# Altium footprint library MODULE.PCBLIB: 102 footprints (part 2 of 7)
Each footprint in its own frame and in the unit in brackets; x right, y up, seen from the top. Pads: shape width x height; smd on the part's side, far side on the other; paste and mask are expansions set on the pad; w line width, h text height; cw(c..) or ccw(c..) is an arc to the next point about the centre after c.
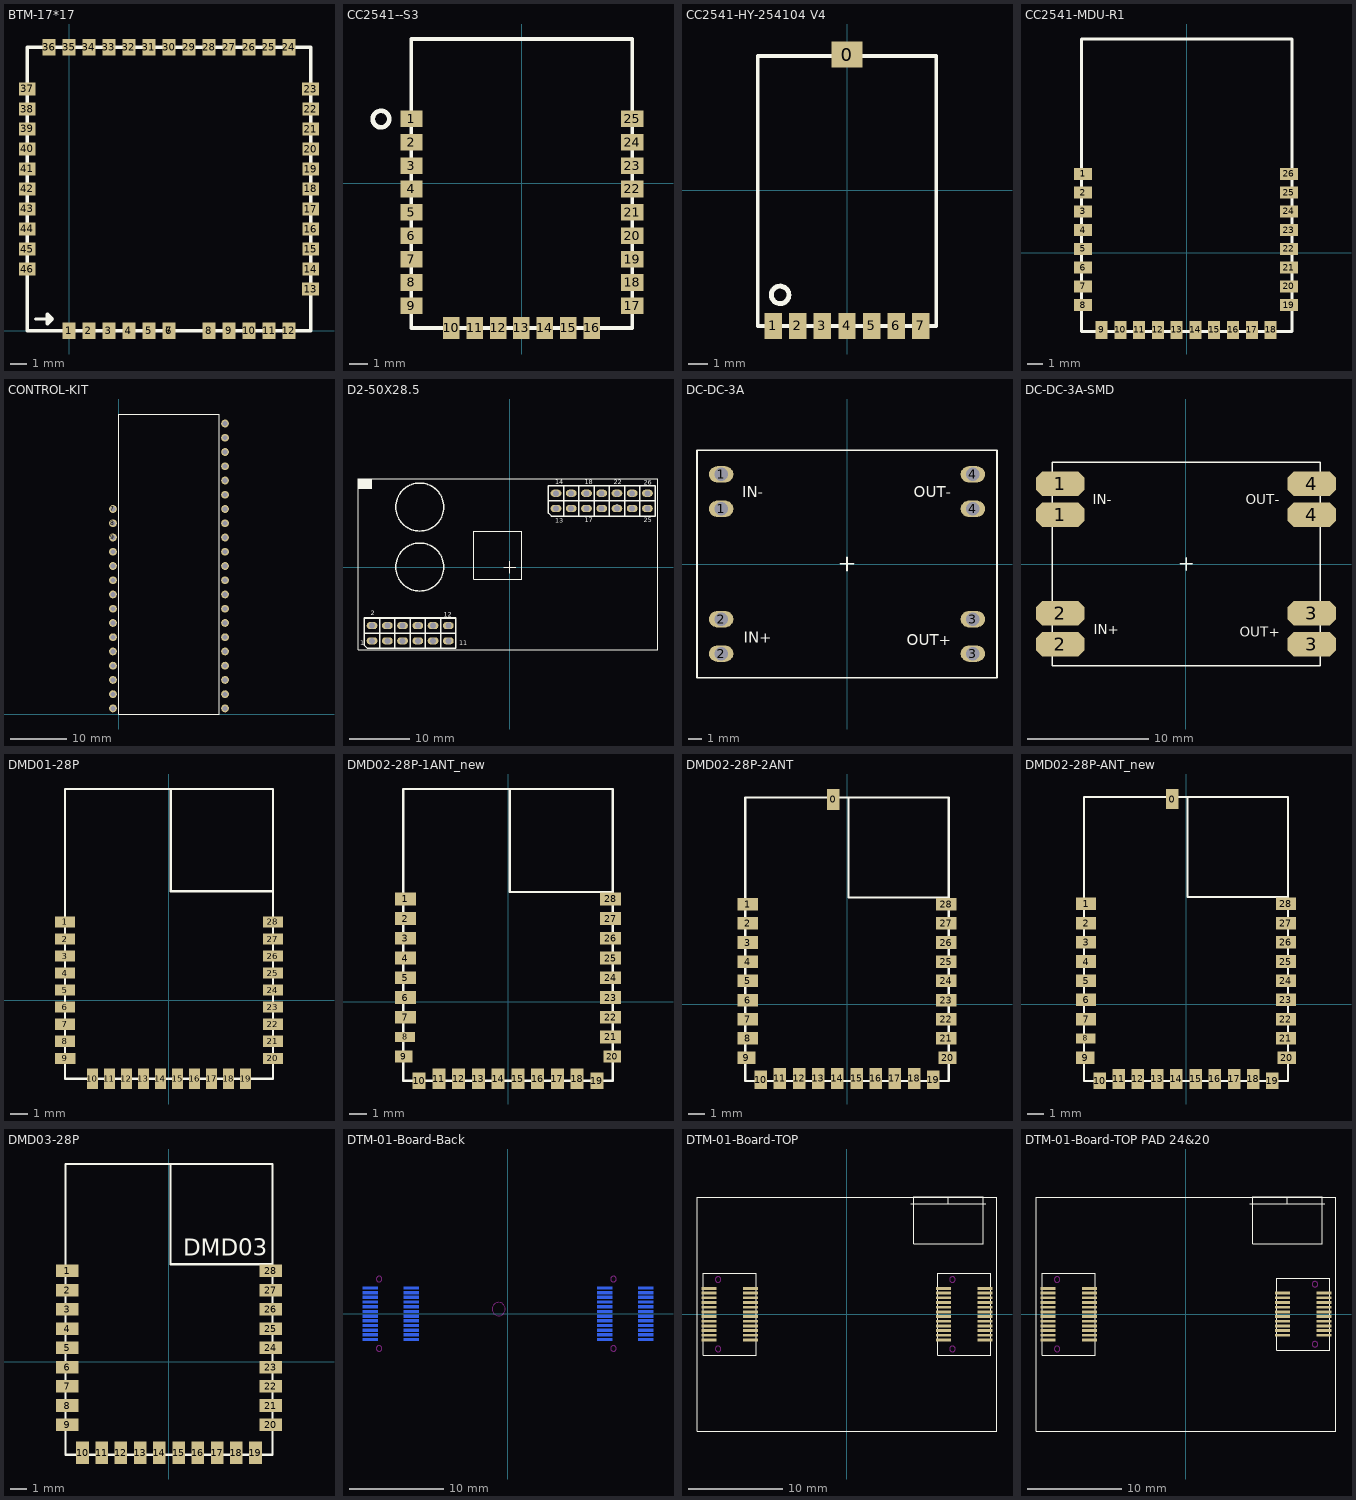
[diagram p1: the footprints below, top view; thin cyan lines are the x and y axes]

## BTM-17*17 [mm]
pads (46):
  rect 0.8x1 smd mask+0.102: 1(0,0) 2(1.2,0) 3(2.4,0) 4(3.6,0) 5(4.8,0) 6(6,0) 7(6,0) 8(8.4,0) 9(9.6,0) 10(10.8,0) 11(12,0) 12(13.2,0) 24(13.2,17) 25(12,17) 26(10.8,17) 27(9.6,17) 28(8.4,17) 29(7.2,17) 30(6,17) 31(4.8,17) 32(3.6,17) 33(2.4,17) 34(1.2,17) 35(0,17) 36(-1.2,17)
  rect 1x0.8 smd mask+0.102: 13(14.493,2.5) 14(14.5,3.7) 15(14.5,4.9) 16(14.5,6.1) 17(14.5,7.3) 18(14.5,8.5) 19(14.5,9.7) 20(14.5,10.9) 21(14.5,12.1) 22(14.5,13.3) 23(14.493,14.5) 37(-2.5,14.5) 38(-2.5,13.3) 39(-2.5,12.1) 40(-2.5,10.9) 41(-2.5,9.7) 42(-2.5,8.5) 43(-2.5,7.3) 44(-2.5,6.1) 45(-2.5,4.9) 46(-2.5,3.7)
TopOverlay:
  lines w0.2: -2,0.7 -1,0.7 ; -1,0.7 -1.3,0.4 -1.3,1 -1,0.7 ; -2.5,0 -2.5,17 14.5,17 14.5,0 -2.5,0

## CC2541--S3 [mm] "CC2541--S3"
pads (25):
  rect 1.2x0.9 smd mask+0.102: 1(-6,3.51) 2(-6,2.24) 3(-6,0.97) 4(-6,-0.3) 5(-6,-1.57) 6(-6,-2.84) 7(-6,-4.11) 8(-6,-5.38) 9(-6,-6.65) 17(6,-6.65) 18(6,-5.38) 19(6,-4.11) 20(6,-2.84) 21(6,-1.57) 22(6,-0.3) 23(6,0.97) 24(6,2.24) 25(6,3.51)
  rect 0.9x1.2 smd mask+0.102: 10(-3.83,-7.85) 11(-2.56,-7.85) 12(-1.29,-7.85) 13(-0.02,-7.85) 14(1.25,-7.85) 15(2.52,-7.85) 16(3.79,-7.85)
TopOverlay:
  circle w0.254: c-7.65,3.5 r0.45
  lines w0.2: -6,-7.85 6,-7.85 6,7.85 -6,7.85 -6,-7.85

## CC2541-HY-254104 V4 [mm] "CC2541-HY-254104 V4"
pads (8):
  rect 1.6x1.35 smd mask+0.102: 0(0,7)
  rect 0.9x1.35 smd mask+0.102: 1(-3.81,-7) 2(-2.54,-7) 3(-1.27,-7) 4(0,-7) 5(1.27,-7) 6(2.54,-7) 7(3.81,-7)
TopOverlay:
  circle w0.254: c-3.45,-5.4 r0.45
  lines w0.2: -4.602,-7 -4.602,6.93 4.602,6.93 4.602,-7 -4.602,-7

## CC2541-MDU-R1 [mm] "CC2541-MDU-R1"
pads (26):
  rect 1.2x0.8 smd mask+0.102: 1(-6.9,5.25) 2(-6.9,4) 3(-6.9,2.75) 4(-6.9,1.5) 5(-6.9,0.25) 6(-6.9,-1) 7(-6.9,-2.25) 8(-6.9,-3.5) 19(6.8,-3.5) 20(6.8,-2.25) 21(6.8,-1) 22(6.8,0.25) 23(6.8,1.5) 24(6.8,2.75) 25(6.8,4) 26(6.8,5.25)
  rect 0.8x1.2 smd mask+0.102: 9(-5.67,-5.15) 10(-4.42,-5.15) 11(-3.17,-5.15) 12(-1.92,-5.15) 13(-0.68,-5.15) 14(0.58,-5.15) 15(1.82,-5.15) 16(3.08,-5.15) 17(4.33,-5.15) 18(5.58,-5.15)
TopOverlay:
  lines w0.2: -7,-5.25 -7,14.225 7,14.225 7,-5.25 -7,-5.25

## CONTROL-KIT [mm] "CONTROL-KIT"
pads (36):
  round 1.4 hole 0.85 mask+0.102: 7(-1,36.56) 8(-1,34.02) 9(-1,31.48) 10(-1,28.94) 11(-1,26.4) 12(-1,23.86) 13(-1,21.32) 14(-1,18.78) 15(-1,16.24) 16(-1,13.7) 17(-1,11.16) 18(-1,8.62) 19(-1,6.08) 20(-1,3.54) 21(-1,1) 22(19,1) 23(19,3.54) 24(19,6.08) 25(19,8.62) 26(19,11.16) 27(19,13.7) 28(19,16.24) 29(19,18.78) 30(19,21.32) 31(19,23.86) 32(19,26.4) 33(19,28.94) 34(19,31.48) 35(19,34.02) 36(19,36.56) 37(19,39.1) 38(19,41.64) 39(19,44.18) 40(19,46.72) 41(19,49.26) 42(19,51.8)
TopOverlay:
  lines w0.127: 0,0 0,53.5 18,53.5 18,0 0,0

## D2-50X28.5 [mm]
pads (26):
  oval 1.8x1.2 hole 1 mask+0.102: 1(-22.945,-12.3) 2(-22.945,-9.76) 3(-20.405,-12.3) 4(-20.405,-9.76) 5(-17.865,-12.3) 6(-17.865,-9.76) 7(-15.325,-12.3) 8(-15.325,-9.76) 9(-12.785,-12.3) 10(-12.785,-9.76) 11(-10.245,-12.3) 12(-10.245,-9.76) 13(7.705,9.76) 14(7.705,12.3) 15(10.245,9.76) 16(10.245,12.3) 17(12.785,9.76) 18(12.785,12.3) 19(15.325,9.76) 20(15.325,12.3) 21(17.865,9.76) 22(17.865,12.3) 23(20.405,9.76) 24(20.405,12.3) 25(22.945,9.76) 26(22.945,12.3)
TopOverlay:
  circle w0.254: c-15,10 r4
  circle w0.254: c-15,0 r4
  rectangle: -25.295,13.001 -23.001,14.76
  lines w0.127: -1,0 1,0 ; 0,-1 0,1 ; -6,-2 -6,6 2,6 2,-2 -6,-2
  lines w0.2: -25.295,-13.74 24.705,-13.74 24.705,14.76 -25.295,14.76 -25.295,-13.74
  lines w0.254: -24.215,-11.03 -8.975,-11.03 ; -21.675,-13.57 -21.675,-8.49 ; -19.135,-13.57 -19.135,-8.49 ; -16.595,-13.57 -16.595,-8.49 ; -14.055,-13.57 -14.055,-8.49 ; -11.515,-13.57 -11.515,-8.49 ; 6.435,11.03 24.215,11.03 ; 8.975,8.49 8.975,13.57 ; 11.515,8.49 11.515,13.57 ; 14.055,8.49 14.055,13.57 ; 16.595,8.49 16.595,13.57 ; 19.135,8.49 19.135,13.57 ; 21.675,8.49 21.675,13.57 ; -24.215,-13.062 -23.707,-13.57 -8.975,-13.57 -8.975,-8.49 -24.215,-8.49 -24.215,-13.062 ; 6.435,8.998 6.943,8.49 24.215,8.49 24.215,13.57 6.435,13.57 6.435,8.998
  text "13" at 7.578,7.347 h0.8
  text "17" at 12.505,7.46 h0.8
  text "14" at 7.551,13.824 h0.8
  text "22" at 17.365,13.78 h0.8
  text "26" at 22.345,13.74 h0.8
  text "25" at 22.305,7.46 h0.8
  text "12" at -10.965,-8.24 h0.8
  text "1" at -24.945,-13.01 h0.8
  text "2" at -23.195,-8.01 h0.8
  text "11" at -8.444,-13.01 h0.8
  text "18" at 12.535,13.81 h0.8
  text "9" at 17.605,9.71 h0.8
BottomOverlay:
  lines w0.254: -24.215,-11.03 -8.975,-11.03 ; -21.675,-13.57 -21.675,-8.49 ; -19.135,-13.57 -19.135,-8.49 ; -16.595,-13.57 -16.595,-8.49 ; -14.055,-13.57 -14.055,-8.49 ; -11.515,-13.57 -11.515,-8.49 ; 6.435,11.03 24.215,11.03 ; 8.975,8.49 8.975,13.57 ; 11.515,8.49 11.515,13.57 ; 14.055,8.49 14.055,13.57 ; 16.595,8.49 16.595,13.57 ; 19.135,8.49 19.135,13.57 ; 21.675,8.49 21.675,13.57 ; -24.215,-13.062 -24.215,-8.49 -8.975,-8.49 -8.975,-13.57 -23.707,-13.57 -24.215,-13.062 ; 6.435,8.998 6.435,13.57 24.215,13.57 24.215,8.49 6.943,8.49 6.435,8.998
  text "14" at 23.455,13.77 h0.8
  text "12" at 21.005,13.76 h0.8
  text "8" at 15.595,13.81 h0.8
  text "6" at 13.045,13.78 h0.8
  text "4" at 10.645,13.78 h0.8
  text "2" at 8.115,13.79 h0.8
  text "10" at 18.545,13.77 h0.8
  text "3" at 10.495,7.35 h0.8
  text "7" at 15.615,7.29 h0.8
  text "9" at 18.105,7.4 h0.8
  text "11" at 20.805,7.42 h0.8
  text "13" at 23.575,7.37 h0.8
  text "1" at 7.832,7.16 h0.8
  text "5" at 13.085,7.37 h0.8
  text "12" at -9.645,-8.1 h0.8
  text "8" at -15.045,-8.1 h0.8
  text "6" at -17.645,-8.1 h0.8
  text "2" at -22.645,-8.1 h0.8
  text "10" at -12.175,-8.1 h0.8
  text "11" at -7.915,-13.29 h0.8
  text "1" at -24.515,-13.04 h0.8

## DC-DC-3A [mm]
pads (8):
  oval 1.8x1.2 hole 1 mask+0.102: 1(-9.271,4.064) 1(-9.271,6.604) 2(-9.271,-6.604) 2(-9.271,-4.064) 3(9.271,-6.604) 3(9.271,-4.064) 4(9.271,4.064) 4(9.271,6.604)
TopOverlay:
  lines w0.127: -0.5,0.018 0.5,0.018 ; 0,-0.5 0,0.5 ; -11.049,-8.382 -11.049,8.382 11.049,8.382 11.049,-8.382 -11.049,-8.382
  text "IN-" at -7.7,4.9 h0.8
  text "IN+" at -7.6,-5.8 h0.8
  text "OUT+" at 4.4,-6 h0.8
  text "OUT-" at 4.9,4.9 h0.8

## DC-DC-3A-SMD [mm]
pads (8):
  oct 4x2 smd mask+0.102: 1(-10.35,4.064) 1(-10.35,6.604) 2(-10.35,-6.604) 2(-10.35,-4.064) 3(10.35,-6.604) 3(10.35,-4.064) 4(10.35,4.064) 4(10.35,6.604)
TopOverlay:
  lines w0.127: -0.479,0.018 0.521,0.018 ; 0.021,-0.5 0.021,0.5 ; -11.028,-8.382 11.07,-8.382 11.07,8.382 -11.028,8.382 -11.028,-8.382
  text "OUT-" at 4.921,4.9 h0.8
  text "OUT+" at 4.421,-6 h0.8
  text "IN+" at -7.579,-5.8 h0.8
  text "IN-" at -7.679,4.9 h0.8

## DMD01-28P [mm] "DMD01-28P"
pads (28):
  rect 1.2x0.65 smd: 1(-6.1,4.6) 2(-6.1,3.6) 3(-6.1,2.6) 4(-6.1,1.6) 5(-6.1,0.6) 6(-6.1,-0.4) 7(-6.1,-1.4) 8(-6.1,-2.4) 9(-6.1,-3.4) 20(6.1,-3.4) 21(6.1,-2.4) 22(6.1,-1.4) 23(6.1,-0.4) 24(6.1,0.6) 25(6.1,1.6) 26(6.1,2.6) 27(6.1,3.6) 28(6.1,4.6)
  rect 0.65x1.2 smd: 10(-4.5,-4.6) 11(-3.5,-4.6) 12(-2.5,-4.6) 13(-1.5,-4.6) 14(-0.5,-4.6) 15(0.5,-4.6) 16(1.5,-4.6) 17(2.5,-4.6) 18(3.5,-4.6) 19(4.5,-4.6)
TopOverlay:
  lines w0.127: 0.1,12.4 0.1,6.4 6.1,6.4 ; -6.1,-4.6 6.1,-4.6 6.1,12.4 -6.1,12.4 -6.1,-4.6

## DMD02-28P-1ANT_new [mm] "DMD02-28P-1ANT_new"
pads (28):
  rect 1.2x0.75 smd: 1(-5.975,6) 2(-5.975,4.85) 3(-5.975,3.7) 4(-5.975,2.55) 5(-5.975,1.4) 6(-5.975,0.25) 7(-5.975,-0.9) 21(5.975,-2.05) 22(5.975,-0.9) 23(5.975,0.25) 24(5.975,1.4) 25(5.975,2.55) 26(5.975,3.7) 27(5.975,4.85) 28(5.975,6)
  rect 1.15x0.6 smd: 8(-6,-2.05)
  rect 1x0.7 smd: 9(-6.075,-3.2) 20(6.075,-3.2)
  rect 0.75x0.95 smd: 10(-5.175,-4.605) 19(5.175,-4.605)
  rect 0.75x1.2 smd: 11(-4.025,-4.475) 12(-2.875,-4.475) 13(-1.725,-4.475) 14(-0.575,-4.475) 15(0.575,-4.475) 16(1.725,-4.475) 17(2.875,-4.475) 18(4.025,-4.475)
TopOverlay:
  lines w0.127: 0.1,12.4 0.1,6.4 6.1,6.4 ; -6.1,-4.6 -6.1,12.4 6.1,12.4 6.1,-4.6 -6.1,-4.6 ; -1.4,12.4 -1.36,12.4 -1.4,12.4

## DMD02-28P-2ANT [mm] "DMD02-28P-2ANT"
pads (29):
  rect 0.75x1.25 smd: 0(-0.825,12.275) 11(-4.025,-4.45) 12(-2.875,-4.45) 13(-1.725,-4.45) 14(-0.575,-4.45) 15(0.575,-4.45) 16(1.725,-4.45) 17(2.875,-4.45) 18(4.025,-4.45)
  rect 1.25x0.75 smd: 1(-5.95,6) 2(-5.95,4.85) 3(-5.95,3.7) 4(-5.95,2.55) 5(-5.95,1.4) 6(-5.95,0.25) 7(-5.95,-0.9) 8(-5.95,-2.05) 21(5.95,-2.05) 22(5.95,-0.9) 23(5.95,0.25) 24(5.95,1.4) 25(5.95,2.55) 26(5.95,3.7) 27(5.95,4.85) 28(5.95,6)
  rect 1.1x0.75 smd: 9(-6.025,-3.2) 20(6.025,-3.2)
  rect 0.75x1.1 smd: 10(-5.175,-4.53) 19(5.175,-4.53)
TopOverlay:
  lines w0.127: -1.4,12.4 -1.36,12.4 ; 0.1,12.4 0.1,6.4 6.1,6.4 ; -6.1,-4.6 6.1,-4.6 6.1,12.4 -6.1,12.4 -6.1,-4.6

## DMD02-28P-ANT_new [mm] "DMD02-28P-ANT_new"
pads (29):
  rect 0.75x1.2 smd: 0(-0.825,12.275) 11(-4.025,-4.475) 12(-2.875,-4.475) 13(-1.725,-4.475) 14(-0.575,-4.475) 15(0.575,-4.475) 16(1.725,-4.475) 17(2.875,-4.475) 18(4.025,-4.475)
  rect 1.2x0.75 smd: 1(-5.975,6) 2(-5.975,4.85) 3(-5.975,3.7) 4(-5.975,2.55) 5(-5.975,1.4) 6(-5.975,0.25) 7(-5.975,-0.9) 21(5.975,-2.05) 22(5.975,-0.9) 23(5.975,0.25) 24(5.975,1.4) 25(5.975,2.55) 26(5.975,3.7) 27(5.975,4.85) 28(5.975,6)
  rect 1.15x0.6 smd: 8(-6,-2.05)
  rect 1.1x0.75 smd: 9(-6.025,-3.2) 20(6.025,-3.2)
  rect 0.75x1 smd: 10(-5.175,-4.58) 19(5.175,-4.58)
TopOverlay:
  lines w0.127: 0.1,12.4 0.1,6.4 6.1,6.4 ; -6.1,-4.6 -6.1,12.4 6.1,12.4 6.1,-4.6 -6.1,-4.6 ; -1.4,12.4 -1.36,12.4 -1.4,12.4

## DMD03-28P [mm] "DMD03-28P"
pads (28):
  rect 1.35x0.75 smd: 1(-6.075,5.438) 2(-6.075,4.288) 3(-6.075,3.138) 4(-6.075,1.988) 5(-6.075,0.837) 6(-6.075,-0.313) 7(-6.075,-1.463) 8(-6.075,-2.613) 9(-6.075,-3.762) 20(6.075,-3.763) 21(6.075,-2.612) 22(6.075,-1.463) 23(6.075,-0.313) 24(6.075,0.837) 25(6.075,1.988) 26(6.075,3.138) 27(6.075,4.288) 28(6.075,5.438)
  rect 0.75x1.35 smd: 10(-5.175,-5.437) 11(-4.025,-5.437) 12(-2.875,-5.437) 13(-1.725,-5.437) 14(-0.575,-5.437) 15(0.575,-5.437) 16(1.725,-5.437) 17(2.875,-5.437) 18(4.025,-5.437) 19(5.175,-5.437)
TopOverlay:
  lines w0.127: 0.1,11.838 0.1,5.838 6.2,5.838 ; -6.2,-5.563 -6.2,11.837 6.2,11.837 6.2,-5.563 -6.2,-5.563
  text "DMD03" at 0.85,6.337 h1

## DTM-01-Board-Back [mm] "DTM-01-Board-Back"
pads (48):
  rect 1.6x0.3 smd far side: 1A(-10.3,-2.75) 1B(14.7,-2.75) 2A(-14.7,-2.75) 2B(10.3,-2.75) 3A(-10.3,-2.25) 3B(14.7,-2.25) 4A(-14.7,-2.25) 4B(10.3,-2.25) 5A(-10.3,-1.75) 5B(14.7,-1.75) 6A(-14.7,-1.75) 6B(10.3,-1.75) 7A(-10.3,-1.25) 7B(14.7,-1.25) 8A(-14.7,-1.25) 8B(10.3,-1.25) 9A(-10.3,-0.75) 9B(14.7,-0.75) 10A(-14.7,-0.75) 10B(10.3,-0.75) 11A(-10.3,-0.25) 11B(14.7,-0.25) 12A(-14.7,-0.25) 12B(10.3,-0.25) 13A(-10.3,0.25) 13B(14.7,0.25) 14A(-14.7,0.25) 14B(10.3,0.25) 15A(-10.3,0.75) 15B(14.7,0.75) 16A(-14.7,0.75) 16B(10.3,0.75) 17A(-10.3,1.25) 17B(14.7,1.25) 18A(-14.7,1.25) 18B(10.3,1.25) 19A(-10.3,1.75) 19B(14.7,1.75) 20A(-14.7,1.75) 20B(10.3,1.75) 21A(-10.3,2.25) 21B(14.7,2.25) 22A(-14.7,2.25) 22B(10.3,2.25) 23A(-10.3,2.75) 23B(14.7,2.75) 24A(-14.7,2.75) 24B(10.3,2.75)
BottomOverlay:
  lines w0.127: 6.825,-11.8 14.825,-11.8 ; 10.825,-12.55 10.825,-11.8 ; -16,-12.5 16,-12.5 16,12.5 -16,12.5 -16,-12.5 ; -15.325,-4.35 -9.675,-4.35 -9.675,4.35 -15.325,4.35 -15.325,-4.35 ; 7.125,-12.55 14.525,-12.55 14.525,-7.5 7.125,-7.5 7.125,-12.55 ; 9.675,-4.35 15.325,-4.35 15.325,4.35 9.675,4.35 9.675,-4.35
KeepOutLayer:
  circle w0.1: c11.25,-3.7 r0.3
  circle w0.1: c11.25,3.7 r0.3
  circle w0.127: c-1,0.5 r0.705
  circle w0.1: c-13.75,-3.7 r0.3
  circle w0.1: c-13.75,3.7 r0.3

## DTM-01-Board-TOP [mm] "DTM-01-Board-TOP"
pads (48):
  rect 1.6x0.3 smd: 1A(-10.3,2.75) 1B(14.7,2.75) 2A(-14.7,2.75) 2B(10.3,2.75) 3A(-10.3,2.25) 3B(14.7,2.25) 4A(-14.7,2.25) 4B(10.3,2.25) 5A(-10.3,1.75) 5B(14.7,1.75) 6A(-14.7,1.75) 6B(10.3,1.75) 7A(-10.3,1.25) 7B(14.7,1.25) 8A(-14.7,1.25) 8B(10.3,1.25) 9A(-10.3,0.75) 9B(14.7,0.75) 10A(-14.7,0.75) 10B(10.3,0.75) 11A(-10.3,0.25) 11B(14.7,0.25) 12A(-14.7,0.25) 12B(10.3,0.25) 13A(-10.3,-0.25) 13B(14.7,-0.25) 14A(-14.7,-0.25) 14B(10.3,-0.25) 15A(-10.3,-0.75) 15B(14.7,-0.75) 16A(-14.7,-0.75) 16B(10.3,-0.75) 17A(-10.3,-1.25) 17B(14.7,-1.25) 18A(-14.7,-1.25) 18B(10.3,-1.25) 19A(-10.3,-1.75) 19B(14.7,-1.75) 20A(-14.7,-1.75) 20B(10.3,-1.75) 21A(-10.3,-2.25) 21B(14.7,-2.25) 22A(-14.7,-2.25) 22B(10.3,-2.25) 23A(-10.3,-2.75) 23B(14.7,-2.75) 24A(-14.7,-2.75) 24B(10.3,-2.75)
TopOverlay:
  lines w0.127: 6.825,11.8 14.825,11.8 ; 10.825,11.8 10.825,12.55 ; -16,-12.5 16,-12.5 16,12.5 -16,12.5 -16,-12.5 ; -15.325,-4.35 -15.325,4.35 -9.675,4.35 -9.675,-4.35 -15.325,-4.35 ; 7.125,7.5 7.125,12.55 14.525,12.55 14.525,7.5 7.125,7.5 ; 9.675,-4.35 9.675,4.35 15.325,4.35 15.325,-4.35 9.675,-4.35
KeepOutLayer:
  circle w0.1: c-13.75,-3.7 r0.3
  circle w0.1: c-13.75,3.7 r0.3
  circle w0.1: c11.25,-3.7 r0.3
  circle w0.1: c11.25,3.7 r0.3

## DTM-01-Board-TOP PAD 24&20 [mm] "DTM-01-Board-TOP PAD 24&20"
pads (44):
  rect 1.6x0.3 smd: 1A(-10.3,2.75) 1B(14.7,2.25) 2A(-14.7,2.75) 2B(10.3,2.25) 3A(-10.3,2.25) 3B(14.7,1.75) 4A(-14.7,2.25) 4B(10.3,1.75) 5A(-10.3,1.75) 5B(14.7,1.25) 6A(-14.7,1.75) 6B(10.3,1.25) 7A(-10.3,1.25) 7B(14.7,0.75) 8A(-14.7,1.25) 8B(10.3,0.75) 9A(-10.3,0.75) 9B(14.7,0.25) 10A(-14.7,0.75) 10B(10.3,0.25) 11A(-10.3,0.25) 11B(14.7,-0.25) 12A(-14.7,0.25) 12B(10.3,-0.25) 13A(-10.3,-0.25) 13B(14.7,-0.75) 14A(-14.7,-0.25) 14B(10.3,-0.75) 15A(-10.3,-0.75) 15B(14.7,-1.25) 16A(-14.7,-0.75) 16B(10.3,-1.25) 17A(-10.3,-1.25) 17B(14.7,-1.75) 18A(-14.7,-1.25) 18B(10.3,-1.75) 19A(-10.3,-1.75) 19B(14.7,-2.25) 20A(-14.7,-1.75) 20B(10.3,-2.25) 21A(-10.3,-2.25) 22A(-14.7,-2.25) 23A(-10.3,-2.75) 24A(-14.7,-2.75)
TopOverlay:
  lines w0.127: 6.825,11.8 14.825,11.8 ; 10.825,11.8 10.825,12.55 ; -16,-12.5 16,-12.5 16,12.5 -16,12.5 -16,-12.5 ; -15.325,-4.35 -15.325,4.35 -9.675,4.35 -9.675,-4.35 -15.325,-4.35 ; 7.125,7.5 7.125,12.55 14.525,12.55 14.525,7.5 7.125,7.5 ; 9.675,-3.85 9.675,3.85 15.325,3.85 15.325,-3.85 9.675,-3.85
KeepOutLayer:
  circle w0.1: c-13.75,-3.7 r0.3
  circle w0.1: c-13.75,3.7 r0.3
  circle w0.1: c13.75,-3.2 r0.3
  circle w0.1: c13.75,3.2 r0.3